# Altium schematic symbol library MCU_Microchip_SAML.SchLib: 20 symbols
Pins are listed as number, name and electrical type; pins without a type are passive.

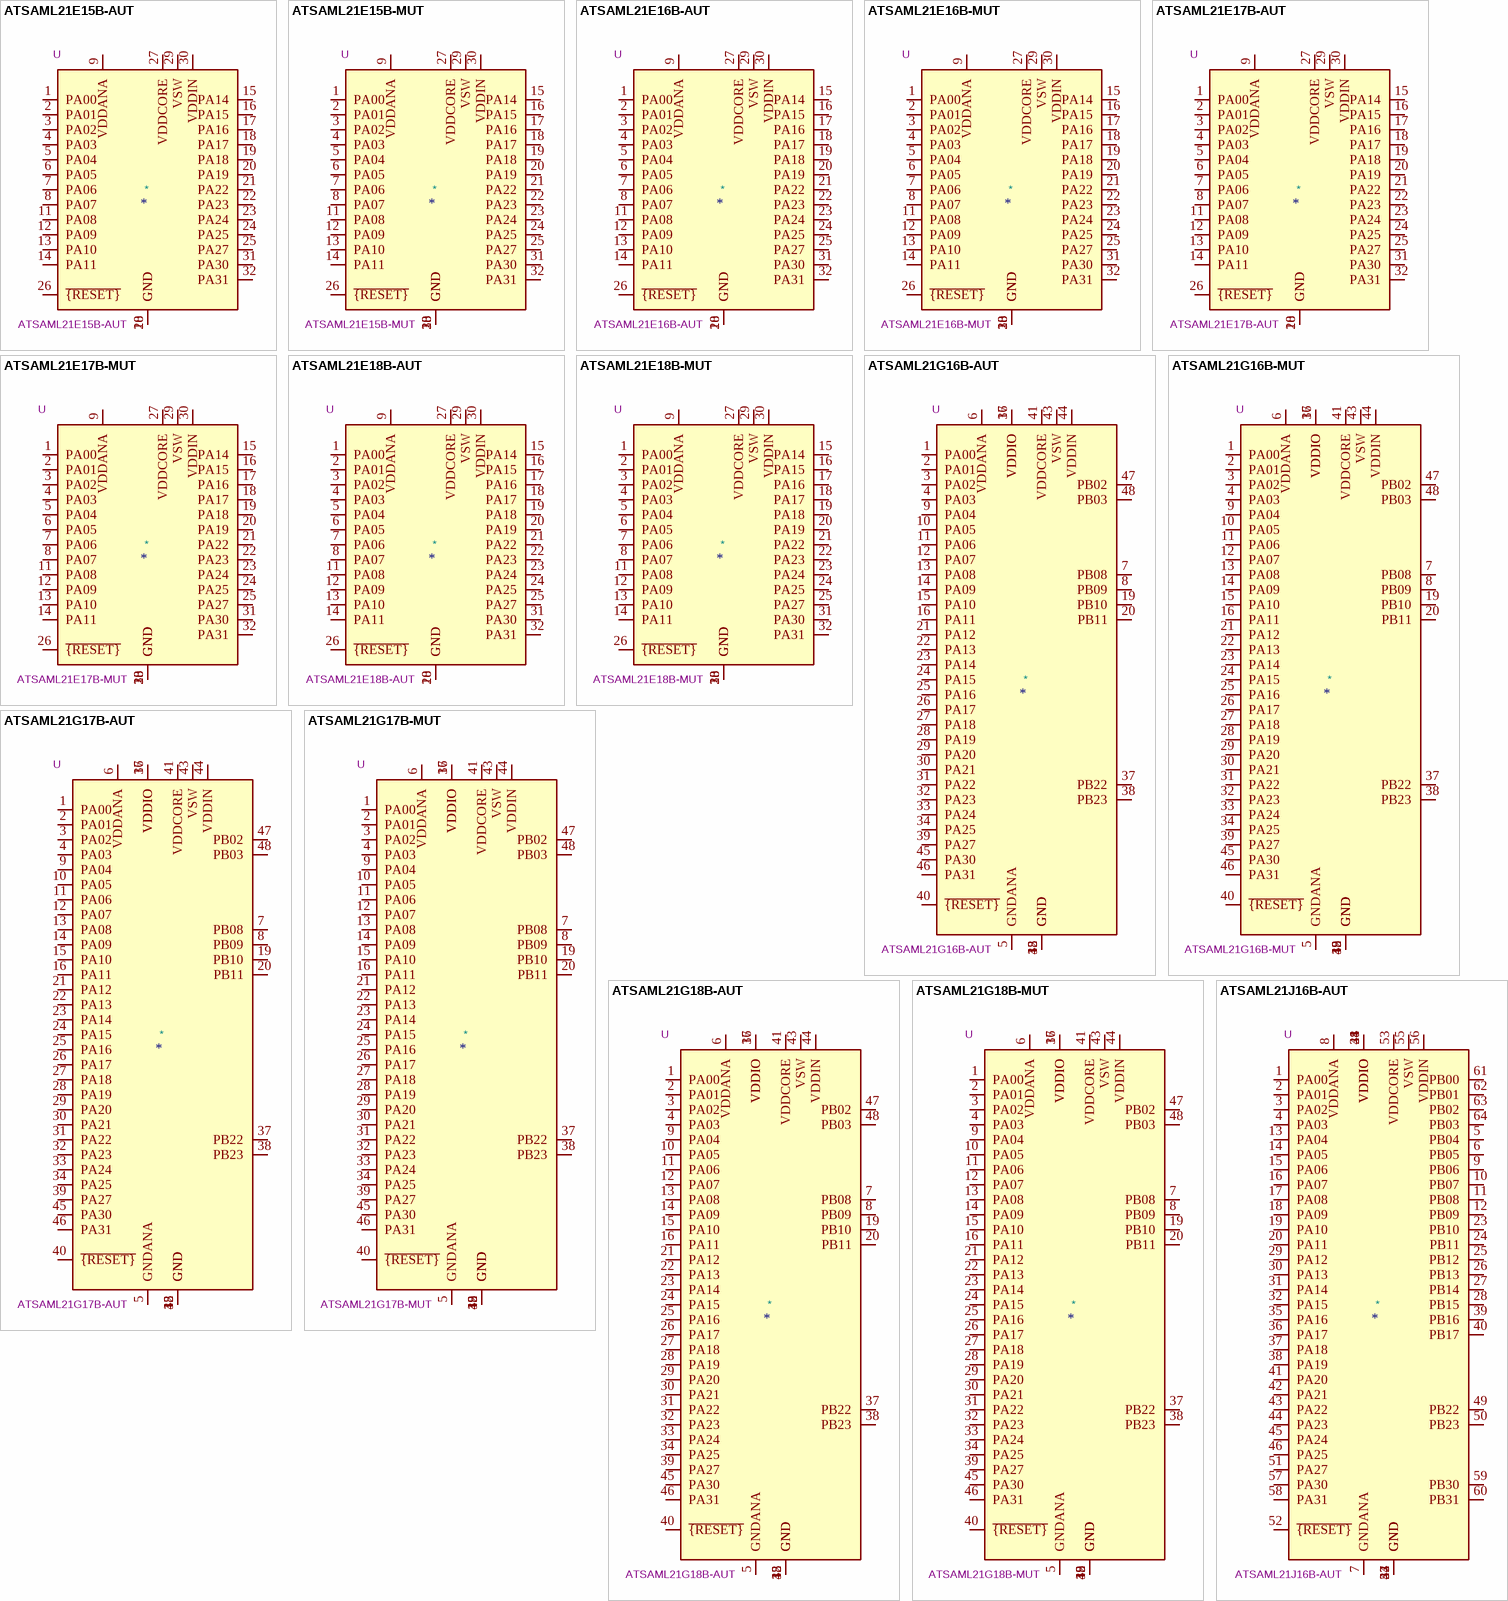
[diagram p0: symbols ATSAML21E15B-AUT to ATSAML21J16B-AUT]

## ATSAML21E15B-AUT
designator *  value ATSAML21E15B-AUT  Reference: U
SAM L21 Microchip SMART ARM-based Flash MCU, 48Mhz, 32K Flash, 4K SRAM, TQFP-32; ki_keywords: 32-bit ARM Cortex-M0+ Microcontroller; ki_fp_filters: TQFP*7x7mm*P0.8mm*; Footprint: Package_QFP:TQFP-32_7x7mm_P0.8mm; Datasheet: https://ww1.microchip.com/downloads/aemDocuments/documents/MCU32/ProductDocuments/DataSheets/SAM-L21-Family-Data-Sheet-DS60001477.pdf; Description_: SAM L21 Microchip SMART ARM-based Flash MCU, 48Mhz, 32K Flash, 4K SRAM, TQFP-32
pins: 1 PA00, 2 PA01, 3 PA02, 4 PA03, 5 PA04, 6 PA05, 7 PA06, 8 PA07, 9 VDDANA, 10 GND, 11 PA08, 12 PA09, 13 PA10, 14 PA11, 15 PA14, 16 PA15, 17 PA16, 18 PA17, 19 PA18, 20 PA19, 21 PA22, 22 PA23, 23 PA24, 24 PA25, 25 PA27, 26 ~{{RESET}}, 27 VDDCORE, 28 GND, 29 VSW, 30 VDDIN, 31 PA30, 32 PA31

## ATSAML21E15B-MUT
designator *  value ATSAML21E15B-MUT  Reference: U
SAM L21 Microchip SMART ARM-based Flash MCU, 48Mhz, 32K Flash, 4K SRAM, VQFN-32; ki_keywords: 32-bit ARM Cortex-M0+ Microcontroller; ki_fp_filters: *QFN*5x5mm*P0.5mm*EP3.6*x3.6*mm*; Footprint: Package_DFN_QFN:QFN-32-1EP_5x5mm_P0.5mm_EP3.6x3.6mm; Datasheet: https://ww1.microchip.com/downloads/aemDocuments/documents/MCU32/ProductDocuments/DataSheets/SAM-L21-Family-Data-Sheet-DS60001477.pdf; Description_: SAM L21 Microchip SMART ARM-based Flash MCU, 48Mhz, 32K Flash, 4K SRAM, VQFN-32
pins: 1 PA00, 2 PA01, 3 PA02, 4 PA03, 5 PA04, 6 PA05, 7 PA06, 8 PA07, 9 VDDANA, 10 GND, 11 PA08, 12 PA09, 13 PA10, 14 PA11, 15 PA14, 16 PA15, 17 PA16, 18 PA17, 19 PA18, 20 PA19, 21 PA22, 22 PA23, 23 PA24, 24 PA25, 25 PA27, 26 ~{{RESET}}, 27 VDDCORE, 28 GND, 29 VSW, 30 VDDIN, 31 PA30, 32 PA31, 33 GND

## ATSAML21E16B-AUT
designator *  value ATSAML21E16B-AUT  Reference: U
SAM L21 Microchip SMART ARM-based Flash MCU, 48Mhz, 64K Flash, 8K SRAM, TQFP-32; ki_keywords: 32-bit ARM Cortex-M0+ Microcontroller; ki_fp_filters: TQFP*7x7mm*P0.8mm*; Footprint: Package_QFP:TQFP-32_7x7mm_P0.8mm; Datasheet: https://ww1.microchip.com/downloads/aemDocuments/documents/MCU32/ProductDocuments/DataSheets/SAM-L21-Family-Data-Sheet-DS60001477.pdf; Description_: SAM L21 Microchip SMART ARM-based Flash MCU, 48Mhz, 64K Flash, 8K SRAM, TQFP-32
pins: 1 PA00, 2 PA01, 3 PA02, 4 PA03, 5 PA04, 6 PA05, 7 PA06, 8 PA07, 9 VDDANA, 10 GND, 11 PA08, 12 PA09, 13 PA10, 14 PA11, 15 PA14, 16 PA15, 17 PA16, 18 PA17, 19 PA18, 20 PA19, 21 PA22, 22 PA23, 23 PA24, 24 PA25, 25 PA27, 26 ~{{RESET}}, 27 VDDCORE, 28 GND, 29 VSW, 30 VDDIN, 31 PA30, 32 PA31

## ATSAML21E16B-MUT
designator *  value ATSAML21E16B-MUT  Reference: U
SAM L21 Microchip SMART ARM-based Flash MCU, 48Mhz, 64K Flash, 8K SRAM, VQFN-32; ki_keywords: 32-bit ARM Cortex-M0+ Microcontroller; ki_fp_filters: *QFN*5x5mm*P0.5mm*EP3.6*x3.6*mm*; Footprint: Package_DFN_QFN:QFN-32-1EP_5x5mm_P0.5mm_EP3.6x3.6mm; Datasheet: https://ww1.microchip.com/downloads/aemDocuments/documents/MCU32/ProductDocuments/DataSheets/SAM-L21-Family-Data-Sheet-DS60001477.pdf; Description_: SAM L21 Microchip SMART ARM-based Flash MCU, 48Mhz, 64K Flash, 8K SRAM, VQFN-32
pins: 1 PA00, 2 PA01, 3 PA02, 4 PA03, 5 PA04, 6 PA05, 7 PA06, 8 PA07, 9 VDDANA, 10 GND, 11 PA08, 12 PA09, 13 PA10, 14 PA11, 15 PA14, 16 PA15, 17 PA16, 18 PA17, 19 PA18, 20 PA19, 21 PA22, 22 PA23, 23 PA24, 24 PA25, 25 PA27, 26 ~{{RESET}}, 27 VDDCORE, 28 GND, 29 VSW, 30 VDDIN, 31 PA30, 32 PA31, 33 GND

## ATSAML21E17B-AUT
designator *  value ATSAML21E17B-AUT  Reference: U
SAM L21 Microchip SMART ARM-based Flash MCU, 48Mhz, 128K Flash, 16K SRAM, TQFP-32; ki_keywords: 32-bit ARM Cortex-M0+ Microcontroller; ki_fp_filters: TQFP*7x7mm*P0.8mm*; Footprint: Package_QFP:TQFP-32_7x7mm_P0.8mm; Datasheet: https://ww1.microchip.com/downloads/aemDocuments/documents/MCU32/ProductDocuments/DataSheets/SAM-L21-Family-Data-Sheet-DS60001477.pdf; Description_: SAM L21 Microchip SMART ARM-based Flash MCU, 48Mhz, 128K Flash, 16K SRAM, TQFP-32
pins: 1 PA00, 2 PA01, 3 PA02, 4 PA03, 5 PA04, 6 PA05, 7 PA06, 8 PA07, 9 VDDANA, 10 GND, 11 PA08, 12 PA09, 13 PA10, 14 PA11, 15 PA14, 16 PA15, 17 PA16, 18 PA17, 19 PA18, 20 PA19, 21 PA22, 22 PA23, 23 PA24, 24 PA25, 25 PA27, 26 ~{{RESET}}, 27 VDDCORE, 28 GND, 29 VSW, 30 VDDIN, 31 PA30, 32 PA31

## ATSAML21E17B-MUT
designator *  value ATSAML21E17B-MUT  Reference: U
SAM L21 Microchip SMART ARM-based Flash MCU, 48Mhz, 128K Flash, 16K SRAM, VQFN-32; ki_keywords: 32-bit ARM Cortex-M0+ Microcontroller; ki_fp_filters: *QFN*5x5mm*P0.5mm*EP3.6*x3.6*mm*; Footprint: Package_DFN_QFN:QFN-32-1EP_5x5mm_P0.5mm_EP3.6x3.6mm; Datasheet: https://ww1.microchip.com/downloads/aemDocuments/documents/MCU32/ProductDocuments/DataSheets/SAM-L21-Family-Data-Sheet-DS60001477.pdf; Description_: SAM L21 Microchip SMART ARM-based Flash MCU, 48Mhz, 128K Flash, 16K SRAM, VQFN-32
pins: 1 PA00, 2 PA01, 3 PA02, 4 PA03, 5 PA04, 6 PA05, 7 PA06, 8 PA07, 9 VDDANA, 10 GND, 11 PA08, 12 PA09, 13 PA10, 14 PA11, 15 PA14, 16 PA15, 17 PA16, 18 PA17, 19 PA18, 20 PA19, 21 PA22, 22 PA23, 23 PA24, 24 PA25, 25 PA27, 26 ~{{RESET}}, 27 VDDCORE, 28 GND, 29 VSW, 30 VDDIN, 31 PA30, 32 PA31, 33 GND

## ATSAML21E18B-AUT
designator *  value ATSAML21E18B-AUT  Reference: U
SAM L21 Microchip SMART ARM-based Flash MCU, 48Mhz, 256K Flash, 32K SRAM, TQFP-32; ki_keywords: 32-bit ARM Cortex-M0+ Microcontroller; ki_fp_filters: TQFP*7x7mm*P0.8mm*; Footprint: Package_QFP:TQFP-32_7x7mm_P0.8mm; Datasheet: https://ww1.microchip.com/downloads/aemDocuments/documents/MCU32/ProductDocuments/DataSheets/SAM-L21-Family-Data-Sheet-DS60001477.pdf; Description_: SAM L21 Microchip SMART ARM-based Flash MCU, 48Mhz, 256K Flash, 32K SRAM, TQFP-32
pins: 1 PA00, 2 PA01, 3 PA02, 4 PA03, 5 PA04, 6 PA05, 7 PA06, 8 PA07, 9 VDDANA, 10 GND, 11 PA08, 12 PA09, 13 PA10, 14 PA11, 15 PA14, 16 PA15, 17 PA16, 18 PA17, 19 PA18, 20 PA19, 21 PA22, 22 PA23, 23 PA24, 24 PA25, 25 PA27, 26 ~{{RESET}}, 27 VDDCORE, 28 GND, 29 VSW, 30 VDDIN, 31 PA30, 32 PA31

## ATSAML21E18B-MUT
designator *  value ATSAML21E18B-MUT  Reference: U
SAM L21 Microchip SMART ARM-based Flash MCU, 48Mhz, 256K Flash, 32K SRAM, VQFN-32; ki_keywords: 32-bit ARM Cortex-M0+ Microcontroller; ki_fp_filters: *QFN*5x5mm*P0.5mm*EP3.6*x3.6*mm*; Footprint: Package_DFN_QFN:QFN-32-1EP_5x5mm_P0.5mm_EP3.6x3.6mm; Datasheet: https://ww1.microchip.com/downloads/aemDocuments/documents/MCU32/ProductDocuments/DataSheets/SAM-L21-Family-Data-Sheet-DS60001477.pdf; Description_: SAM L21 Microchip SMART ARM-based Flash MCU, 48Mhz, 256K Flash, 32K SRAM, VQFN-32
pins: 1 PA00, 2 PA01, 3 PA02, 4 PA03, 5 PA04, 6 PA05, 7 PA06, 8 PA07, 9 VDDANA, 10 GND, 11 PA08, 12 PA09, 13 PA10, 14 PA11, 15 PA14, 16 PA15, 17 PA16, 18 PA17, 19 PA18, 20 PA19, 21 PA22, 22 PA23, 23 PA24, 24 PA25, 25 PA27, 26 ~{{RESET}}, 27 VDDCORE, 28 GND, 29 VSW, 30 VDDIN, 31 PA30, 32 PA31, 33 GND

## ATSAML21G16B-AUT
designator *  value ATSAML21G16B-AUT  Reference: U
SAM L21 Microchip SMART ARM-based Flash MCU, 48Mhz, 64K Flash, 8K SRAM, TQFP-48; ki_keywords: 32-bit ARM Cortex-M0+ Microcontroller; ki_fp_filters: TQFP*7x7mm*P0.5mm*; Footprint: Package_QFP:TQFP-48_7x7mm_P0.5mm; Datasheet: https://ww1.microchip.com/downloads/aemDocuments/documents/MCU32/ProductDocuments/DataSheets/SAM-L21-Family-Data-Sheet-DS60001477.pdf; Description_: SAM L21 Microchip SMART ARM-based Flash MCU, 48Mhz, 64K Flash, 8K SRAM, TQFP-48
pins: 1 PA00, 2 PA01, 3 PA02, 4 PA03, 5 GNDANA, 6 VDDANA, 7 PB08, 8 PB09, 9 PA04, 10 PA05, 11 PA06, 12 PA07, 13 PA08, 14 PA09, 15 PA10, 16 PA11, 17 VDDIO, 18 GND, 19 PB10, 20 PB11, 21 PA12, 22 PA13, 23 PA14, 24 PA15, 25 PA16, 26 PA17, 27 PA18, 28 PA19, 29 PA20, 30 PA21, 31 PA22, 32 PA23, 33 PA24, 34 PA25, 35 GND, 36 VDDIO, 37 PB22, 38 PB23, 39 PA27, 40 ~{{RESET}}, 41 VDDCORE, 42 GND, 43 VSW, 44 VDDIN, 45 PA30, 46 PA31, 47 PB02, 48 PB03

## ATSAML21G16B-MUT
designator *  value ATSAML21G16B-MUT  Reference: U
SAM L21 Microchip SMART ARM-based Flash MCU, 48Mhz, 64K Flash, 8K SRAM, VQFN-48; ki_keywords: 32-bit ARM Cortex-M0+ Microcontroller; ki_fp_filters: *QFN*7x7mm*P0.5mm*EP5.15x5.15mm*; Footprint: Package_DFN_QFN:QFN-48-1EP_7x7mm_P0.5mm_EP5.15x5.15mm; Datasheet: https://ww1.microchip.com/downloads/aemDocuments/documents/MCU32/ProductDocuments/DataSheets/SAM-L21-Family-Data-Sheet-DS60001477.pdf; Description_: SAM L21 Microchip SMART ARM-based Flash MCU, 48Mhz, 64K Flash, 8K SRAM, VQFN-48
pins: 1 PA00, 2 PA01, 3 PA02, 4 PA03, 5 GNDANA, 6 VDDANA, 7 PB08, 8 PB09, 9 PA04, 10 PA05, 11 PA06, 12 PA07, 13 PA08, 14 PA09, 15 PA10, 16 PA11, 17 VDDIO, 18 GND, 19 PB10, 20 PB11, 21 PA12, 22 PA13, 23 PA14, 24 PA15, 25 PA16, 26 PA17, 27 PA18, 28 PA19, 29 PA20, 30 PA21, 31 PA22, 32 PA23, 33 PA24, 34 PA25, 35 GND, 36 VDDIO, 37 PB22, 38 PB23, 39 PA27, 40 ~{{RESET}}, 41 VDDCORE, 42 GND, 43 VSW, 44 VDDIN, 45 PA30, 46 PA31, 47 PB02, 48 PB03, 49 GND

## ATSAML21G17B-AUT
designator *  value ATSAML21G17B-AUT  Reference: U
SAM L21 Microchip SMART ARM-based Flash MCU, 48Mhz, 128K Flash, 16K SRAM, TQFP-48; ki_keywords: 32-bit ARM Cortex-M0+ Microcontroller; ki_fp_filters: TQFP*7x7mm*P0.5mm*; Footprint: Package_QFP:TQFP-48_7x7mm_P0.5mm; Datasheet: https://ww1.microchip.com/downloads/aemDocuments/documents/MCU32/ProductDocuments/DataSheets/SAM-L21-Family-Data-Sheet-DS60001477.pdf; Description_: SAM L21 Microchip SMART ARM-based Flash MCU, 48Mhz, 128K Flash, 16K SRAM, TQFP-48
pins: 1 PA00, 2 PA01, 3 PA02, 4 PA03, 5 GNDANA, 6 VDDANA, 7 PB08, 8 PB09, 9 PA04, 10 PA05, 11 PA06, 12 PA07, 13 PA08, 14 PA09, 15 PA10, 16 PA11, 17 VDDIO, 18 GND, 19 PB10, 20 PB11, 21 PA12, 22 PA13, 23 PA14, 24 PA15, 25 PA16, 26 PA17, 27 PA18, 28 PA19, 29 PA20, 30 PA21, 31 PA22, 32 PA23, 33 PA24, 34 PA25, 35 GND, 36 VDDIO, 37 PB22, 38 PB23, 39 PA27, 40 ~{{RESET}}, 41 VDDCORE, 42 GND, 43 VSW, 44 VDDIN, 45 PA30, 46 PA31, 47 PB02, 48 PB03

## ATSAML21G17B-MUT
designator *  value ATSAML21G17B-MUT  Reference: U
SAM L21 Microchip SMART ARM-based Flash MCU, 48Mhz, 128K Flash, 16K SRAM, VQFN-48; ki_keywords: 32-bit ARM Cortex-M0+ Microcontroller; ki_fp_filters: *QFN*7x7mm*P0.5mm*EP5.15x5.15mm*; Footprint: Package_DFN_QFN:QFN-48-1EP_7x7mm_P0.5mm_EP5.15x5.15mm; Datasheet: https://ww1.microchip.com/downloads/aemDocuments/documents/MCU32/ProductDocuments/DataSheets/SAM-L21-Family-Data-Sheet-DS60001477.pdf; Description_: SAM L21 Microchip SMART ARM-based Flash MCU, 48Mhz, 128K Flash, 16K SRAM, VQFN-48
pins: 1 PA00, 2 PA01, 3 PA02, 4 PA03, 5 GNDANA, 6 VDDANA, 7 PB08, 8 PB09, 9 PA04, 10 PA05, 11 PA06, 12 PA07, 13 PA08, 14 PA09, 15 PA10, 16 PA11, 17 VDDIO, 18 GND, 19 PB10, 20 PB11, 21 PA12, 22 PA13, 23 PA14, 24 PA15, 25 PA16, 26 PA17, 27 PA18, 28 PA19, 29 PA20, 30 PA21, 31 PA22, 32 PA23, 33 PA24, 34 PA25, 35 GND, 36 VDDIO, 37 PB22, 38 PB23, 39 PA27, 40 ~{{RESET}}, 41 VDDCORE, 42 GND, 43 VSW, 44 VDDIN, 45 PA30, 46 PA31, 47 PB02, 48 PB03, 49 GND

## ATSAML21G18B-AUT
designator *  value ATSAML21G18B-AUT  Reference: U
SAM L21 Microchip SMART ARM-based Flash MCU, 48Mhz, 256K Flash, 32K SRAM, TQFP-48; ki_keywords: 32-bit ARM Cortex-M0+ Microcontroller; ki_fp_filters: TQFP*7x7mm*P0.5mm*; Footprint: Package_QFP:TQFP-48_7x7mm_P0.5mm; Datasheet: https://ww1.microchip.com/downloads/aemDocuments/documents/MCU32/ProductDocuments/DataSheets/SAM-L21-Family-Data-Sheet-DS60001477.pdf; Description_: SAM L21 Microchip SMART ARM-based Flash MCU, 48Mhz, 256K Flash, 32K SRAM, TQFP-48
pins: 1 PA00, 2 PA01, 3 PA02, 4 PA03, 5 GNDANA, 6 VDDANA, 7 PB08, 8 PB09, 9 PA04, 10 PA05, 11 PA06, 12 PA07, 13 PA08, 14 PA09, 15 PA10, 16 PA11, 17 VDDIO, 18 GND, 19 PB10, 20 PB11, 21 PA12, 22 PA13, 23 PA14, 24 PA15, 25 PA16, 26 PA17, 27 PA18, 28 PA19, 29 PA20, 30 PA21, 31 PA22, 32 PA23, 33 PA24, 34 PA25, 35 GND, 36 VDDIO, 37 PB22, 38 PB23, 39 PA27, 40 ~{{RESET}}, 41 VDDCORE, 42 GND, 43 VSW, 44 VDDIN, 45 PA30, 46 PA31, 47 PB02, 48 PB03

## ATSAML21G18B-MUT
designator *  value ATSAML21G18B-MUT  Reference: U
SAM L21 Microchip SMART ARM-based Flash MCU, 48Mhz, 256K Flash, 32K SRAM, VQFN-48; ki_keywords: 32-bit ARM Cortex-M0+ Microcontroller; ki_fp_filters: *QFN*7x7mm*P0.5mm*EP5.15x5.15mm*; Footprint: Package_DFN_QFN:QFN-48-1EP_7x7mm_P0.5mm_EP5.15x5.15mm; Datasheet: https://ww1.microchip.com/downloads/aemDocuments/documents/MCU32/ProductDocuments/DataSheets/SAM-L21-Family-Data-Sheet-DS60001477.pdf; Description_: SAM L21 Microchip SMART ARM-based Flash MCU, 48Mhz, 256K Flash, 32K SRAM, VQFN-48
pins: 1 PA00, 2 PA01, 3 PA02, 4 PA03, 5 GNDANA, 6 VDDANA, 7 PB08, 8 PB09, 9 PA04, 10 PA05, 11 PA06, 12 PA07, 13 PA08, 14 PA09, 15 PA10, 16 PA11, 17 VDDIO, 18 GND, 19 PB10, 20 PB11, 21 PA12, 22 PA13, 23 PA14, 24 PA15, 25 PA16, 26 PA17, 27 PA18, 28 PA19, 29 PA20, 30 PA21, 31 PA22, 32 PA23, 33 PA24, 34 PA25, 35 GND, 36 VDDIO, 37 PB22, 38 PB23, 39 PA27, 40 ~{{RESET}}, 41 VDDCORE, 42 GND, 43 VSW, 44 VDDIN, 45 PA30, 46 PA31, 47 PB02, 48 PB03, 49 GND

## ATSAML21J16B-AUT
designator *  value ATSAML21J16B-AUT  Reference: U
SAM L21 Microchip SMART ARM-based Flash MCU, 48Mhz, 64K Flash, 8K SRAM, TQFP-64; ki_keywords: 32-bit ARM Cortex-M0+ Microcontroller; ki_fp_filters: TQFP*64*10x10mm*P0.5mm*; Footprint: Package_QFP:TQFP-64_10x10mm_P0.5mm; Datasheet: https://ww1.microchip.com/downloads/aemDocuments/documents/MCU32/ProductDocuments/DataSheets/SAM-L21-Family-Data-Sheet-DS60001477.pdf; Description_: SAM L21 Microchip SMART ARM-based Flash MCU, 48Mhz, 64K Flash, 8K SRAM, TQFP-64
pins: 1 PA00, 2 PA01, 3 PA02, 4 PA03, 5 PB04, 6 PB05, 7 GNDANA, 8 VDDANA, 9 PB06, 10 PB07, 11 PB08, 12 PB09, 13 PA04, 14 PA05, 15 PA06, 16 PA07, 17 PA08, 18 PA09, 19 PA10, 20 PA11, 21 VDDIO, 22 GND, 23 PB10, 24 PB11, 25 PB12, 26 PB13, 27 PB14, 28 PB15, 29 PA12, 30 PA13, 31 PA14, 32 PA15, 33 GND, 34 VDDIO, 35 PA16, 36 PA17, 37 PA18, 38 PA19, 39 PB16, 40 PB17, 41 PA20, 42 PA21, 43 PA22, 44 PA23, 45 PA24, 46 PA25, 47 GND, 48 VDDIO, 49 PB22, 50 PB23, 51 PA27, 52 ~{{RESET}}, 53 VDDCORE, 54 GND, 55 VSW, 56 VDDIN, 57 PA30, 58 PA31, 59 PB30, 60 PB31, 61 PB00, 62 PB01, 63 PB02, 64 PB03

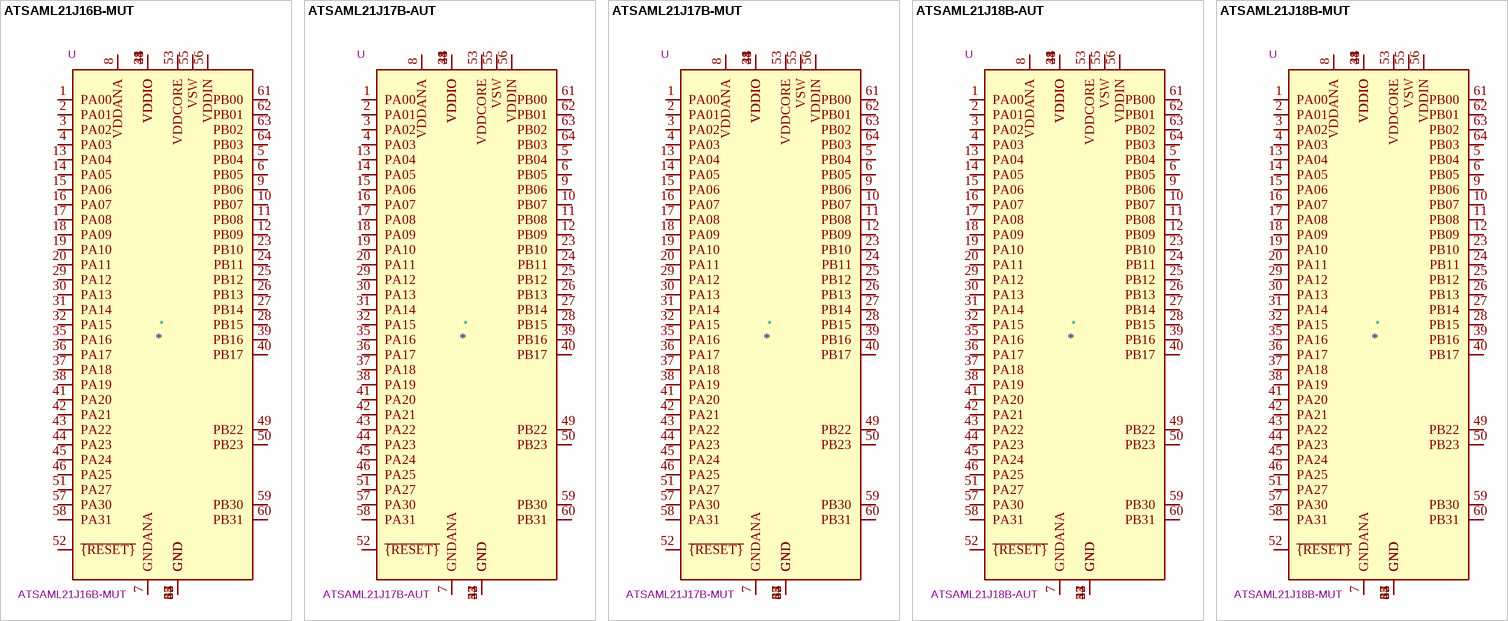
[diagram p1: symbols ATSAML21J16B-MUT to ATSAML21J18B-MUT]

## ATSAML21J16B-MUT
designator *  value ATSAML21J16B-MUT  Reference: U
SAM L21 Microchip SMART ARM-based Flash MCU, 48Mhz, 64K Flash, 8K SRAM, VQFN-64; ki_keywords: 32-bit ARM Cortex-M0+ Microcontroller; ki_fp_filters: *QFN*9x9mm*P0.5mm*EP4.7*x4.7*mm*; Footprint: Package_DFN_QFN:QFN-64-1EP_9x9mm_P0.5mm_EP4.7x4.7mm; Datasheet: https://ww1.microchip.com/downloads/aemDocuments/documents/MCU32/ProductDocuments/DataSheets/SAM-L21-Family-Data-Sheet-DS60001477.pdf; Description_: SAM L21 Microchip SMART ARM-based Flash MCU, 48Mhz, 64K Flash, 8K SRAM, VQFN-64
pins: 1 PA00, 2 PA01, 3 PA02, 4 PA03, 5 PB04, 6 PB05, 7 GNDANA, 8 VDDANA, 9 PB06, 10 PB07, 11 PB08, 12 PB09, 13 PA04, 14 PA05, 15 PA06, 16 PA07, 17 PA08, 18 PA09, 19 PA10, 20 PA11, 21 VDDIO, 22 GND, 23 PB10, 24 PB11, 25 PB12, 26 PB13, 27 PB14, 28 PB15, 29 PA12, 30 PA13, 31 PA14, 32 PA15, 33 GND, 34 VDDIO, 35 PA16, 36 PA17, 37 PA18, 38 PA19, 39 PB16, 40 PB17, 41 PA20, 42 PA21, 43 PA22, 44 PA23, 45 PA24, 46 PA25, 47 GND, 48 VDDIO, 49 PB22, 50 PB23, 51 PA27, 52 ~{{RESET}}, 53 VDDCORE, 54 GND, 55 VSW, 56 VDDIN, 57 PA30, 58 PA31, 59 PB30, 60 PB31, 61 PB00, 62 PB01, 63 PB02, 64 PB03, 65 GND

## ATSAML21J17B-AUT
designator *  value ATSAML21J17B-AUT  Reference: U
SAM L21 Microchip SMART ARM-based Flash MCU, 48Mhz, 128K Flash, 16K SRAM, TQFP-64; ki_keywords: 32-bit ARM Cortex-M0+ Microcontroller; ki_fp_filters: TQFP*64*10x10mm*P0.5mm*; Footprint: Package_QFP:TQFP-64_10x10mm_P0.5mm; Datasheet: https://ww1.microchip.com/downloads/aemDocuments/documents/MCU32/ProductDocuments/DataSheets/SAM-L21-Family-Data-Sheet-DS60001477.pdf; Description_: SAM L21 Microchip SMART ARM-based Flash MCU, 48Mhz, 128K Flash, 16K SRAM, TQFP-64
pins: 1 PA00, 2 PA01, 3 PA02, 4 PA03, 5 PB04, 6 PB05, 7 GNDANA, 8 VDDANA, 9 PB06, 10 PB07, 11 PB08, 12 PB09, 13 PA04, 14 PA05, 15 PA06, 16 PA07, 17 PA08, 18 PA09, 19 PA10, 20 PA11, 21 VDDIO, 22 GND, 23 PB10, 24 PB11, 25 PB12, 26 PB13, 27 PB14, 28 PB15, 29 PA12, 30 PA13, 31 PA14, 32 PA15, 33 GND, 34 VDDIO, 35 PA16, 36 PA17, 37 PA18, 38 PA19, 39 PB16, 40 PB17, 41 PA20, 42 PA21, 43 PA22, 44 PA23, 45 PA24, 46 PA25, 47 GND, 48 VDDIO, 49 PB22, 50 PB23, 51 PA27, 52 ~{{RESET}}, 53 VDDCORE, 54 GND, 55 VSW, 56 VDDIN, 57 PA30, 58 PA31, 59 PB30, 60 PB31, 61 PB00, 62 PB01, 63 PB02, 64 PB03

## ATSAML21J17B-MUT
designator *  value ATSAML21J17B-MUT  Reference: U
SAM L21 Microchip SMART ARM-based Flash MCU, 48Mhz, 64K Flash, 8K SRAM, VQFN-64; ki_keywords: 32-bit ARM Cortex-M0+ Microcontroller; ki_fp_filters: *QFN*9x9mm*P0.5mm*EP4.7*x4.7*mm*; Footprint: Package_DFN_QFN:QFN-64-1EP_9x9mm_P0.5mm_EP4.7x4.7mm; Datasheet: https://ww1.microchip.com/downloads/aemDocuments/documents/MCU32/ProductDocuments/DataSheets/SAM-L21-Family-Data-Sheet-DS60001477.pdf; Description_: SAM L21 Microchip SMART ARM-based Flash MCU, 48Mhz, 64K Flash, 8K SRAM, VQFN-64
pins: 1 PA00, 2 PA01, 3 PA02, 4 PA03, 5 PB04, 6 PB05, 7 GNDANA, 8 VDDANA, 9 PB06, 10 PB07, 11 PB08, 12 PB09, 13 PA04, 14 PA05, 15 PA06, 16 PA07, 17 PA08, 18 PA09, 19 PA10, 20 PA11, 21 VDDIO, 22 GND, 23 PB10, 24 PB11, 25 PB12, 26 PB13, 27 PB14, 28 PB15, 29 PA12, 30 PA13, 31 PA14, 32 PA15, 33 GND, 34 VDDIO, 35 PA16, 36 PA17, 37 PA18, 38 PA19, 39 PB16, 40 PB17, 41 PA20, 42 PA21, 43 PA22, 44 PA23, 45 PA24, 46 PA25, 47 GND, 48 VDDIO, 49 PB22, 50 PB23, 51 PA27, 52 ~{{RESET}}, 53 VDDCORE, 54 GND, 55 VSW, 56 VDDIN, 57 PA30, 58 PA31, 59 PB30, 60 PB31, 61 PB00, 62 PB01, 63 PB02, 64 PB03, 65 GND

## ATSAML21J18B-AUT
designator *  value ATSAML21J18B-AUT  Reference: U
SAM L21 Microchip SMART ARM-based Flash MCU, 48Mhz, 256K Flash, 32K SRAM, TQFP-64; ki_keywords: 32-bit ARM Cortex-M0+ Microcontroller; ki_fp_filters: TQFP*64*10x10mm*P0.5mm*; Footprint: Package_QFP:TQFP-64_10x10mm_P0.5mm; Datasheet: https://ww1.microchip.com/downloads/aemDocuments/documents/MCU32/ProductDocuments/DataSheets/SAM-L21-Family-Data-Sheet-DS60001477.pdf; Description_: SAM L21 Microchip SMART ARM-based Flash MCU, 48Mhz, 256K Flash, 32K SRAM, TQFP-64
pins: 1 PA00, 2 PA01, 3 PA02, 4 PA03, 5 PB04, 6 PB05, 7 GNDANA, 8 VDDANA, 9 PB06, 10 PB07, 11 PB08, 12 PB09, 13 PA04, 14 PA05, 15 PA06, 16 PA07, 17 PA08, 18 PA09, 19 PA10, 20 PA11, 21 VDDIO, 22 GND, 23 PB10, 24 PB11, 25 PB12, 26 PB13, 27 PB14, 28 PB15, 29 PA12, 30 PA13, 31 PA14, 32 PA15, 33 GND, 34 VDDIO, 35 PA16, 36 PA17, 37 PA18, 38 PA19, 39 PB16, 40 PB17, 41 PA20, 42 PA21, 43 PA22, 44 PA23, 45 PA24, 46 PA25, 47 GND, 48 VDDIO, 49 PB22, 50 PB23, 51 PA27, 52 ~{{RESET}}, 53 VDDCORE, 54 GND, 55 VSW, 56 VDDIN, 57 PA30, 58 PA31, 59 PB30, 60 PB31, 61 PB00, 62 PB01, 63 PB02, 64 PB03

## ATSAML21J18B-MUT
designator *  value ATSAML21J18B-MUT  Reference: U
SAM L21 Microchip SMART ARM-based Flash MCU, 48Mhz, 64K Flash, 8K SRAM, VQFN-64; ki_keywords: 32-bit ARM Cortex-M0+ Microcontroller; ki_fp_filters: *QFN*9x9mm*P0.5mm*EP4.7*x4.7*mm*; Footprint: Package_DFN_QFN:QFN-64-1EP_9x9mm_P0.5mm_EP4.7x4.7mm; Datasheet: https://ww1.microchip.com/downloads/aemDocuments/documents/MCU32/ProductDocuments/DataSheets/SAM-L21-Family-Data-Sheet-DS60001477.pdf; Description_: SAM L21 Microchip SMART ARM-based Flash MCU, 48Mhz, 64K Flash, 8K SRAM, VQFN-64
pins: 1 PA00, 2 PA01, 3 PA02, 4 PA03, 5 PB04, 6 PB05, 7 GNDANA, 8 VDDANA, 9 PB06, 10 PB07, 11 PB08, 12 PB09, 13 PA04, 14 PA05, 15 PA06, 16 PA07, 17 PA08, 18 PA09, 19 PA10, 20 PA11, 21 VDDIO, 22 GND, 23 PB10, 24 PB11, 25 PB12, 26 PB13, 27 PB14, 28 PB15, 29 PA12, 30 PA13, 31 PA14, 32 PA15, 33 GND, 34 VDDIO, 35 PA16, 36 PA17, 37 PA18, 38 PA19, 39 PB16, 40 PB17, 41 PA20, 42 PA21, 43 PA22, 44 PA23, 45 PA24, 46 PA25, 47 GND, 48 VDDIO, 49 PB22, 50 PB23, 51 PA27, 52 ~{{RESET}}, 53 VDDCORE, 54 GND, 55 VSW, 56 VDDIN, 57 PA30, 58 PA31, 59 PB30, 60 PB31, 61 PB00, 62 PB01, 63 PB02, 64 PB03, 65 GND